# Altium schematic symbol library STLINK-V3MODS.Schlib: 1 symbol
Pins are listed as number, name and electrical type; pins without a type are passive.

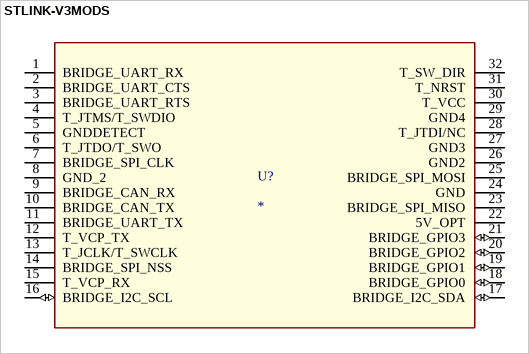
[diagram p0: symbol STLINK-V3MODS]

## STLINK-V3MODS
designator U?
STM32 - Debugger, Programmer (In-Circuit/In-System); MF: STMicroelectronics; MP: STLINK-V3MODS; Price: $12.15; ComponentLink1Description: Digikey; ComponentLink1URL: https://www.digikey.ca/en/products/detail/stmicroelectronics/stlink-v3mods/11610874; ComponentLink2Description: SnapEDA; ComponentLink2URL: https://www.snapeda.com/parts/STLINK-V3MODS/STMicroelectronics/view-part/; ComponentLink3Description: Datasheet; ComponentLink3URL: https://www.st.com/resource/en/data_brief/stlink-v3mods.pdf; Digikey: 497-STLINK-V3MODS-ND
footprint STLINK-V3MODS (STLINK V3 COMPACT IN-CIRCUIT DEB)
pins: 1 BRIDGE_UART_RX, 2 BRIDGE_UART_CTS, 3 BRIDGE_UART_RTS, 4 T_JTMS/T_SWDIO, 5 GNDDETECT, 6 T_JTDO/T_SWO, 7 BRIDGE_SPI_CLK, 8 GND_2, 9 BRIDGE_CAN_RX, 10 BRIDGE_CAN_TX, 11 BRIDGE_UART_TX, 12 T_VCP_TX, 13 T_JCLK/T_SWCLK, 14 BRIDGE_SPI_NSS, 15 T_VCP_RX, 16 BRIDGE_I2C_SCL (io), 17 BRIDGE_I2C_SDA (io), 18 BRIDGE_GPIO0 (io), 19 BRIDGE_GPIO1 (io), 20 BRIDGE_GPIO2 (io), 21 BRIDGE_GPIO3 (io), 22 5V_OPT, 23 BRIDGE_SPI_MISO, 24 GND, 25 BRIDGE_SPI_MOSI, 26 GND2, 27 GND3, 28 T_JTDI/NC, 29 GND4, 30 T_VCC, 31 T_NRST, 32 T_SW_DIR